# Altium schematic symbol library CAY16-103J4LF.SchLib: 1 symbol
Pins are listed as number, name and electrical type; pins without a type are passive.

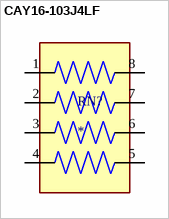
[diagram p0: symbol CAY16-103J4LF]

## CAY16-103J4LF
designator RN?
Resistor, Chip Array,10 Kilohms,62 mW,+ 5%,50 V (Max.) | Bourns CAY16-103J4LF; SnapEDA_Link: https://www.snapeda.com/parts/CAY16-103J4LF/Bourns/view-part/?ref=snap; Package: NON STANDARD-8 Bourns; Value: *; MF: Bourns; MP: CAY16-103J4LF; Check_prices: https://www.snapeda.com/parts/CAY16-103J4LF/Bourns/view-part/?ref=eda
footprint RESCAF80P320X160X60-8N
pins: 1, 2, 3, 4, 5, 6, 7, 8